# Altium schematic symbol library SN74LVC2G157.SchLib: 1 symbol
Pins are listed as number, name and electrical type; pins without a type are passive.

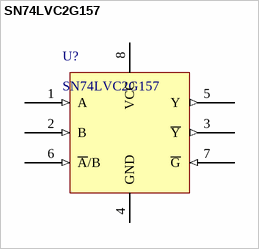
[diagram p0: symbol SN74LVC2G157]

## SN74LVC2G157
designator U?
pins: 1 A (in), 2 B (in), 3 ~{Y} (out), 4 GND (power), 5 Y (out), 6 ~{A}/B (in), 7 ~{G} (in), 8 VCC (power)